# Altium schematic symbol library 6-32_Hex_Nut.SchLib: 1 symbol
Pins are listed as number, name and electrical type; pins without a type are passive.

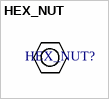
[diagram p0: symbol HEX_NUT]

## HEX_NUT
designator HEX_NUT?, comment 6-32 Hex Nut  (value not drawn)
HEX NUT 0.245" STEEL 6-32; Manufacturer Part Number: HNSS632; Manufacturer: B&F Fastener; Featured Product: Stainless Steel Hardware; Dynamic Catalog: Stainless Steel Hex Nuts; Kits: 1608-KIT-ND / - STAINLESS STL HARDWARE #6,#8,#10; Other Names: H725 / HNSS632; Description: HEX NUT 5/16" STN STEEL 6-32; Supplier 1: Digi-Key; Standard Package: 100; Family: Nuts; Type: Hex; Thread Size: 6-32; Thickness: 0.109" (2.77mm) 7/64"; Width: 0.313" (7.95mm) 5/16"; Material: Stainless Steel; Packaging: 100 per Pkg; ComponentLink1URL: https://datasheet.ciiva.com/1033/nutshexmachine-1033617.pdf; ComponentLink1Description: https://datasheet.ciiva.com/1033/nutshexmachine-1033617.pdf; Supplier Part Number 1: H725-ND; Stock 1: 18283; Pricing 1: 100=0.082, 1000=0.0656 (USD); Category: Hardware, Fasteners, Accessories